# Altium footprint library mw.PcbLib: 252 footprints (part 5 of 16)
Each footprint in its own frame and in the unit in brackets; x right, y up, seen from the top. Pads: shape width x height; smd on the part's side, far side on the other; paste and mask are expansions set on the pad; w line width, h text height; cw(c..) or ccw(c..) is an arc to the next point about the centre after c.
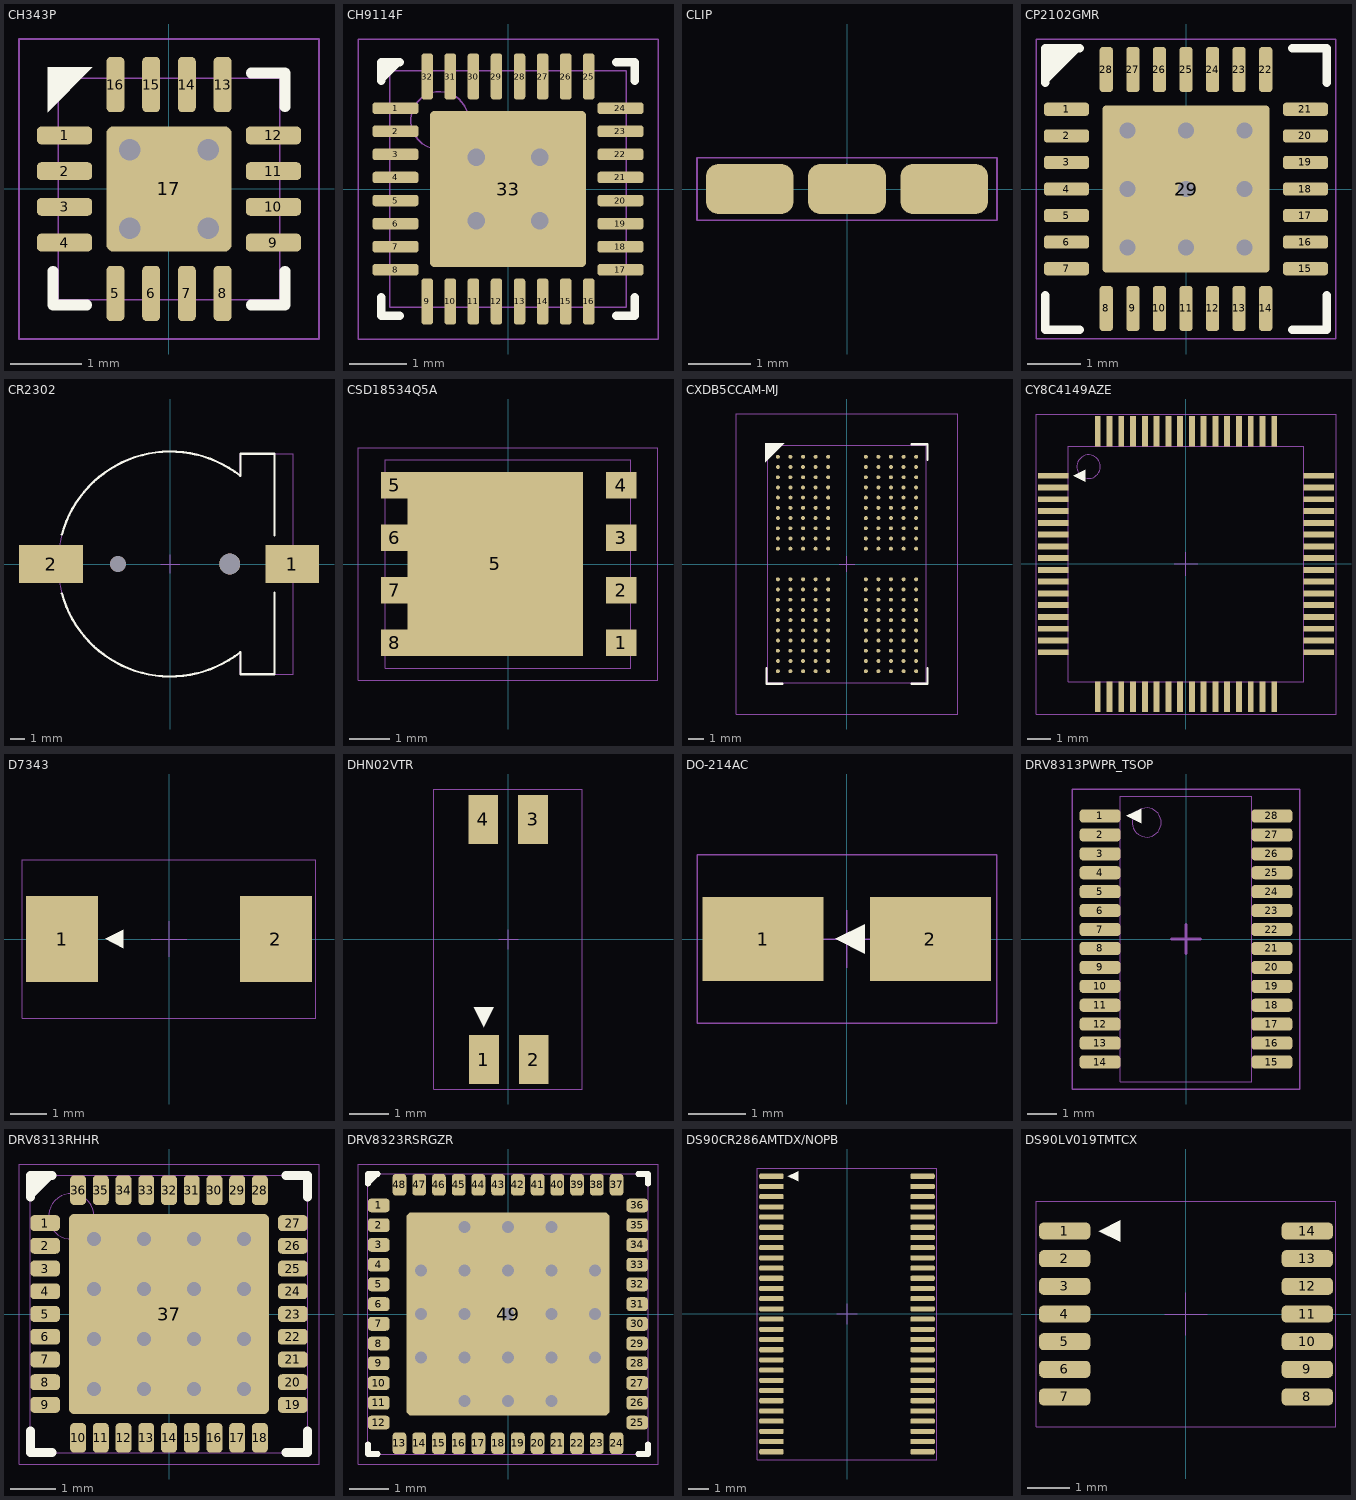
[diagram p4: the footprints below, top view; thin cyan lines are the x and y axes]

## CH343P [mm] "QFN, 16-Leads, Body 3.00x3.00mm, Pitch 0.50mm, Thermal Pad 1.75x1.75mm, IPC Medium Density"
height 0.6
pads (17):
  rrect50% 0.775x0.25 smd: 1(-1.462,0.75) 2(-1.462,0.25) 3(-1.462,-0.25) 4(-1.462,-0.75) 9(1.463,-0.75) 10(1.463,-0.25) 11(1.463,0.25) 12(1.463,0.75)
  rrect50% 0.25x0.775 smd: 5(-0.75,-1.463) 6(-0.25,-1.463) 7(0.25,-1.463) 8(0.75,-1.463) 13(0.75,1.462) 14(0.25,1.462) 15(-0.25,1.462) 16(-0.75,1.462)
  rrect10% 1.75x1.75 smd paste-0.322: 17(0,0)
via 0.55,-0.55 diameter 0.45 hole 0.3
via -0.55,-0.55 diameter 0.45 hole 0.3
via 0.55,0.55 diameter 0.45 hole 0.3
via -0.55,0.55 diameter 0.45 hole 0.3
Top Overlay:
  region: -1.701,1.077 -1.076,1.702 -1.701,1.702
  lines w0.152: -1.626,-1.151 -1.626,-1.626 -1.151,-1.626 ; 1.151,-1.626 1.626,-1.626 1.626,-1.151 ; 1.151,1.626 1.626,1.626 1.626,1.151
Top 3D Body (Mech13):
  lines w0.025: -1.55,-1.55 -1.55,1.55 1.55,1.55 1.55,-1.55 -1.55,-1.55
Top Courtyard:
  lines w0.025: -0.5,0 0.5,0 ; 0,-0.5 0,0.5 ; -2.1,-2.1 2.1,-2.1 2.1,2.1 -2.1,2.1 -2.1,-2.1
3D body "CH343P.step": height 0.6, standoff 0, extent -1.551,-1.551 1.551,1.551

## CH9114F [mm] "QFN, 32-Leads, Body 4.00x4.00mm, Pitch 0.40mm, Thermal Pad 2.70x2.70mm, IPC Medium Density"
height 0.8
pads (33):
  rrect50% 0.8x0.2 smd: 1(-1.95,1.4) 2(-1.95,1) 3(-1.95,0.6) 4(-1.95,0.2) 5(-1.95,-0.2) 6(-1.95,-0.6) 7(-1.95,-1) 8(-1.95,-1.4) 17(1.95,-1.4) 18(1.95,-1) 19(1.95,-0.6) 20(1.95,-0.2) 21(1.95,0.2) 22(1.95,0.6) 23(1.95,1) 24(1.95,1.4)
  rrect50% 0.2x0.8 smd: 9(-1.4,-1.95) 10(-1,-1.95) 11(-0.6,-1.95) 12(-0.2,-1.95) 13(0.2,-1.95) 14(0.6,-1.95) 15(1,-1.95) 16(1.4,-1.95) 25(1.4,1.95) 26(1,1.95) 27(0.6,1.95) 28(0.2,1.95) 29(-0.2,1.95) 30(-0.6,1.95) 31(-1,1.95) 32(-1.4,1.95)
  rrect5% 2.7x2.7 smd: 33(0,0)
via 0.55,-0.55 diameter 0.45 hole 0.3
via -0.55,-0.55 diameter 0.45 hole 0.3
via 0.55,0.55 diameter 0.45 hole 0.3
via -0.55,0.55 diameter 0.45 hole 0.3
Top Overlay:
  region: -2.2,2.2 -1.817,2.2 -2.2,1.817
  lines w0.15: -2.2,-1.875 -2.2,-2.2 -1.875,-2.2 ; -2.2,1.875 -2.2,2.2 -1.875,2.2 ; 1.875,-2.2 2.2,-2.2 2.2,-1.875 ; 1.875,2.2 2.2,2.2 2.2,1.875
Top 3D Body (Mech13):
  circle w0.025: c-1.187,1.187 r0.5
  lines w0.025: -2.05,-2.05 2.05,-2.05 2.05,2.05 -2.05,2.05 -2.05,-2.05
Top Courtyard:
  lines w0.025: -0.5,0 0.5,0 ; 0,-0.5 0,0.5 ; -2.6,-2.6 2.6,-2.6 2.6,2.6 -2.6,2.6 -2.6,-2.6
3D body "CH9114F.step": height 0.8, standoff 0, extent -2.075,-2.075 2.075,2.075

## CLIP [mm]
pads (3):
  rrect50% 1.4x0.8 smd: ""(-1.555,0) ""(1.555,0)
  rrect50% 1.25x0.8 smd: ""(0,0)
Top Courtyard:
  lines w0.025: -0.254,0 0.254,0 ; -0.001,-0.375 -0.001,0.4 ; -2.4,-0.5 2.4,-0.5 2.4,0.5 -2.4,0.5 -2.4,-0.5

## CP2102GMR [mm] "QFN, 28-Leads, Body 5.00x5.00mm, Pitch 0.50mm, Thermal Pad 3.20x3.20mm, IPC High Density"
height 1
pads (29):
  rrect50% 0.85x0.25 smd: 1(-2.25,1.5) 2(-2.25,1) 3(-2.25,0.5) 4(-2.25,0) 5(-2.25,-0.5) 6(-2.25,-1) 7(-2.25,-1.5) 15(2.25,-1.5) 16(2.25,-1) 17(2.25,-0.5) 18(2.25,0) 19(2.25,0.5) 20(2.25,1) 21(2.25,1.5)
  rrect50% 0.25x0.85 smd: 8(-1.5,-2.25) 9(-1,-2.25) 10(-0.5,-2.25) 11(0,-2.25) 12(0.5,-2.25) 13(1,-2.25) 14(1.5,-2.25) 22(1.5,2.25) 23(1,2.25) 24(0.5,2.25) 25(0,2.25) 26(-0.5,2.25) 27(-1,2.25) 28(-1.5,2.25)
  rrect5% 3.15x3.15 smd: 29(0,0)
via 1.1,-1.1 diameter 0.4 hole 0.3
via 0,-1.1 diameter 0.4 hole 0.3
via -1.1,-1.1 diameter 0.4 hole 0.3
via 1.1,0 diameter 0.4 hole 0.3
via 0,0 diameter 0.4 hole 0.3
via -1.1,0 diameter 0.4 hole 0.3
via 1.1,1.1 diameter 0.4 hole 0.3
via 0,1.1 diameter 0.4 hole 0.3
via -1.1,1.1 diameter 0.4 hole 0.3
Top Overlay:
  region: -1.954,2.65 -2.65,1.954 -2.65,2.65
  lines w0.152: -2.65,-2.001 -2.65,-2.65 -2.001,-2.65 ; -2.65,2.001 -2.65,2.65 -2.001,2.65 ; 2.001,-2.65 2.65,-2.65 2.65,-2.001 ; 2.001,2.65 2.65,2.65 2.65,2.001
Top Courtyard:
  lines w0.025: -0.5,0 0.5,0 ; 0,-0.5 0,0.5 ; -2.825,-2.825 2.825,-2.825 2.825,2.825 -2.825,2.825 -2.825,-2.825
3D body "cp2102gmr.STEP": height 0.82, standoff 0, extent -2.51,-2.52 2.51,2.5

## CR2302 [mm]
pads (4):
  rect 3.6x2.55 smd: 1(8.17,0)
  rect 4.3x2.55 smd: 2(-8.01,0)
  round 1.05 hole 1.05 unplated: ""(-3.52,0)
  round 1.4 hole 1.4 unplated: ""(3.98,0)
Top Overlay:
  lines w0.152: -7.284,-1.987 ccw(c0,0) 4.686,-5.92 ; -7.284,1.987 cw(c0,0) 4.686,5.92 ; 4.699,-5.909 4.699,-7.4 6.985,-7.4 6.985,-1.905 ; 4.699,5.909 4.699,7.4 6.985,7.4 6.985,1.905
Top Courtyard:
  lines w0.025: -0.635,0 0.635,0 ; 0,-0.635 0,0.635 ; 4.686,-5.92 cw(c0,0) 4.699,5.909 4.699,7.4 8.255,7.4 8.255,-7.4 4.699,-7.4 4.699,-5.909

## CSD18534Q5A [mm]
pads (9):
  rect 0.75x0.65 smd paste-2539.97: 1(2.777,-1.93) 2(2.777,-0.643) 3(2.777,0.643) 4(2.777,1.93)
  rect 0.655x0.65 smd paste-2539.97: 5(-2.777,1.93) 6(-2.777,0.643) 7(-2.777,-0.643) 8(-2.777,-1.93)
  rect 4.295x4.51 smd paste-2539.97: 5(-0.314,0)
Top Paste:
  rectangle: -1.895,0.31 -0.31,1.88
  rectangle: -1.895,-1.88 -0.31,-0.31
  region: 1.425,1.88 0.19,1.88 0.19,0.31 1.425,0.31
  region: 1.425,-0.31 0.19,-0.31 0.19,-1.88 1.425,-1.88
  region: -3.027,1.68 -3.027,2.18 -2.527,2.18 -2.527,1.68
  region: -3.027,0.393 -3.027,0.893 -2.527,0.893 -2.527,0.393
  region: -3.027,-0.893 -3.027,-0.393 -2.527,-0.393 -2.527,-0.893
  region: 2.527,1.68 2.527,2.18 3.027,2.18 3.027,1.68
  region: 2.527,0.393 2.527,0.893 3.027,0.893 3.027,0.393
  region: 2.527,-0.893 2.527,-0.393 3.027,-0.393 3.027,-0.893
  region: 2.527,-2.18 2.527,-1.68 3.027,-1.68 3.027,-2.18
  region: -3.027,-2.18 -3.027,-1.68 -2.527,-1.68 -2.527,-2.18
Top 3D Body (Mech13):
  lines w0.025: -3,-2.55 3,-2.55 3,2.55 -3,2.55 -3,-2.55
Top Courtyard:
  lines w0.025: -0.508,0 0.508,0 ; 0,-0.508 0,0.508 ; -3.672,-2.852 3.672,-2.852 3.672,2.852 -3.672,2.852 -3.672,-2.852
3D body "CSD18534Q5A.step": height 1.05, standoff 0, extent -3,-2.55 3,2.55

## CXDB5CCAM-MJ [mm] "BGA, 200-Leads, Body 10.00x15.00mmx1.00mm, Pitch 0.65mm"
height 1
pads (200):
  round 0.25 smd: A1(-4.4,6.825) A2(-3.6,6.825) A3(-2.8,6.825) A4(-2,6.825) A5(-1.2,6.825) A8(1.2,6.825) A9(2,6.825) A10(2.8,6.825) A11(3.6,6.825) A12(4.4,6.825) AA1(-4.4,-6.175) AA2(-3.6,-6.175) AA3(-2.8,-6.175) AA4(-2,-6.175) AA5(-1.2,-6.175) AA8(1.2,-6.175) AA9(2,-6.175) AA10(2.8,-6.175) AA11(3.6,-6.175) AA12(4.4,-6.175) AB1(-4.4,-6.825) AB2(-3.6,-6.825) AB3(-2.8,-6.825) AB4(-2,-6.825) AB5(-1.2,-6.825) AB8(1.2,-6.825) AB9(2,-6.825) AB10(2.8,-6.825) AB11(3.6,-6.825) AB12(4.4,-6.825) B1(-4.4,6.175) B2(-3.6,6.175) B3(-2.8,6.175) B4(-2,6.175) B5(-1.2,6.175) B8(1.2,6.175) B9(2,6.175) B10(2.8,6.175) B11(3.6,6.175) B12(4.4,6.175) C1(-4.4,5.525) C2(-3.6,5.525) C3(-2.8,5.525) C4(-2,5.525) C5(-1.2,5.525) C8(1.2,5.525) C9(2,5.525) C10(2.8,5.525) C11(3.6,5.525) C12(4.4,5.525) D1(-4.4,4.875) D2(-3.6,4.875) D3(-2.8,4.875) D4(-2,4.875) D5(-1.2,4.875) D8(1.2,4.875) D9(2,4.875) D10(2.8,4.875) D11(3.6,4.875) D12(4.4,4.875) E1(-4.4,4.225) E2(-3.6,4.225) E3(-2.8,4.225) E4(-2,4.225) E5(-1.2,4.225) E8(1.2,4.225) E9(2,4.225) E10(2.8,4.225) E11(3.6,4.225) E12(4.4,4.225) F1(-4.4,3.575) F2(-3.6,3.575) F3(-2.8,3.575) F4(-2,3.575) F5(-1.2,3.575) F8(1.2,3.575) F9(2,3.575) F10(2.8,3.575) F11(3.6,3.575) F12(4.4,3.575) G1(-4.4,2.925) G2(-3.6,2.925) G3(-2.8,2.925) G4(-2,2.925) G5(-1.2,2.925) G8(1.2,2.925) G9(2,2.925) G10(2.8,2.925) G11(3.6,2.925) G12(4.4,2.925) H1(-4.4,2.275) H2(-3.6,2.275) H3(-2.8,2.275) H4(-2,2.275) H5(-1.2,2.275) H8(1.2,2.275) H9(2,2.275) H10(2.8,2.275) H11(3.6,2.275) H12(4.4,2.275) J1(-4.4,1.625) J2(-3.6,1.625) J3(-2.8,1.625) J4(-2,1.625) J5(-1.2,1.625) J8(1.2,1.625) J9(2,1.625) J10(2.8,1.625) J11(3.6,1.625) J12(4.4,1.625) K1(-4.4,0.975) K2(-3.6,0.975) K3(-2.8,0.975) K4(-2,0.975) K5(-1.2,0.975) K8(1.2,0.975) K9(2,0.975) K10(2.8,0.975) K11(3.6,0.975) K12(4.4,0.975) N1(-4.4,-0.975) N2(-3.6,-0.975) N3(-2.8,-0.975) N4(-2,-0.975) N5(-1.2,-0.975) N8(1.2,-0.975) N9(2,-0.975) N10(2.8,-0.975) N11(3.6,-0.975) N12(4.4,-0.975) P1(-4.4,-1.625) P2(-3.6,-1.625) P3(-2.8,-1.625) P4(-2,-1.625) P5(-1.2,-1.625) P8(1.2,-1.625) P9(2,-1.625) P10(2.8,-1.625) P11(3.6,-1.625) P12(4.4,-1.625) R1(-4.4,-2.275) R2(-3.6,-2.275) R3(-2.8,-2.275) R4(-2,-2.275) R5(-1.2,-2.275) R8(1.2,-2.275) R9(2,-2.275) R10(2.8,-2.275) R11(3.6,-2.275) R12(4.4,-2.275) T1(-4.4,-2.925) T2(-3.6,-2.925) T3(-2.8,-2.925) T4(-2,-2.925) T5(-1.2,-2.925) T8(1.2,-2.925) T9(2,-2.925) T10(2.8,-2.925) T11(3.6,-2.925) T12(4.4,-2.925) U1(-4.4,-3.575) U2(-3.6,-3.575) U3(-2.8,-3.575) U4(-2,-3.575) U5(-1.2,-3.575) U8(1.2,-3.575) U9(2,-3.575) U10(2.8,-3.575) U11(3.6,-3.575) U12(4.4,-3.575) V1(-4.4,-4.225) V2(-3.6,-4.225) V3(-2.8,-4.225) V4(-2,-4.225) V5(-1.2,-4.225) V8(1.2,-4.225) V9(2,-4.225) V10(2.8,-4.225) V11(3.6,-4.225) V12(4.4,-4.225) W1(-4.4,-4.875) W2(-3.6,-4.875) W3(-2.8,-4.875) W4(-2,-4.875) W5(-1.2,-4.875) W8(1.2,-4.875) W9(2,-4.875) W10(2.8,-4.875) W11(3.6,-4.875) W12(4.4,-4.875) Y1(-4.4,-5.525) Y2(-3.6,-5.525) Y3(-2.8,-5.525) Y4(-2,-5.525) Y5(-1.2,-5.525) Y8(1.2,-5.525) Y9(2,-5.525) Y10(2.8,-5.525) Y11(3.6,-5.525) Y12(4.4,-5.525)
Top Overlay:
  region: -3.982,7.702 -5.202,6.482 -5.202,7.702
  lines w0.152: -5.126,-6.626 -5.126,-7.626 -4.126,-7.626 ; 4.126,-7.626 5.126,-7.626 5.126,-6.626 ; 4.126,7.626 5.126,7.626 5.126,6.626
Top 3D Body (Mech13):
  lines w0.025: -5.05,-7.55 5.05,-7.55 5.05,7.55 -5.05,7.55 -5.05,-7.55
Top Courtyard:
  lines w0.025: -0.5,0 0.5,0 ; 0,-0.5 0,0.5 ; -7.05,-9.55 7.05,-9.55 7.05,9.55 -7.05,9.55 -7.05,-9.55
3D body "CXDB5CCAM-MJ.step": height 0.8, standoff 0, extent -5,-7.25 5,7.25

## CY8C4149AZE [mm] "TSQFP, 64-Leads, Body 10.00x10.00mm, Pitch 0.50mm, IPC High Density"
height 1.5
pads (64):
  rect 1.3x0.25 smd: 1(-5.65,3.75) 2(-5.65,3.25) 3(-5.65,2.75) 4(-5.65,2.25) 5(-5.65,1.75) 6(-5.65,1.25) 7(-5.65,0.75) 8(-5.65,0.25) 9(-5.65,-0.25) 10(-5.65,-0.75) 11(-5.65,-1.25) 12(-5.65,-1.75) 13(-5.65,-2.25) 14(-5.65,-2.75) 15(-5.65,-3.25) 16(-5.65,-3.75) 33(5.65,-3.75) 34(5.65,-3.25) 35(5.65,-2.75) 36(5.65,-2.25) 37(5.65,-1.75) 38(5.65,-1.25) 39(5.65,-0.75) 40(5.65,-0.25) 41(5.65,0.25) 42(5.65,0.75) 43(5.65,1.25) 44(5.65,1.75) 45(5.65,2.25) 46(5.65,2.75) 47(5.65,3.25) 48(5.65,3.75)
  rect 0.25x1.3 smd: 17(-3.75,-5.65) 18(-3.25,-5.65) 19(-2.75,-5.65) 20(-2.25,-5.65) 21(-1.75,-5.65) 22(-1.25,-5.65) 23(-0.75,-5.65) 24(-0.25,-5.65) 25(0.25,-5.65) 26(0.75,-5.65) 27(1.25,-5.65) 28(1.75,-5.65) 29(2.25,-5.65) 30(2.75,-5.65) 31(3.25,-5.65) 32(3.75,-5.65) 49(3.75,5.65) 50(3.25,5.65) 51(2.75,5.65) 52(2.25,5.65) 53(1.75,5.65) 54(1.25,5.65) 55(0.75,5.65) 56(0.25,5.65) 57(-0.25,5.65) 58(-0.75,5.65) 59(-1.25,5.65) 60(-1.75,5.65) 61(-2.25,5.65) 62(-2.75,5.65) 63(-3.25,5.65) 64(-3.75,5.65)
Top Overlay:
  region: -4.292,3.496 -4.292,4.004 -4.8,3.75
Top 3D Body (Mech13):
  circle w0.025: c-4.137,4.137 r0.5
  lines w0.025: -5,-5 5,-5 5,5 -5,5 -5,-5
Top Courtyard:
  lines w0.025: -0.5,0 0.5,0 ; 0,-0.5 0,0.5 ; -6.375,-6.375 6.375,-6.375 6.375,6.375 -6.375,6.375 -6.375,-6.375
3D body "CY8C4149AZE.step": height 1.5, standoff 0, extent -6,-6 6,6

## D7343 [mm] "D7343"
pads (2):
  rect 2x2.4 smd: 1(-2.975,0) 2(2.975,0)
Top Overlay:
  region: -1.267,-0.254 -1.267,0.254 -1.775,0
Top Courtyard:
  lines w0.025: -0.5,0 0.5,0 ; 0,-0.5 0,0.5 ; -4.089,-2.2 -4.089,2.2 4.089,2.2 4.089,-2.2 -4.089,-2.2
3D body "7343-31-CASE-D-2917.STEP": height 2.92, standoff 0, extent -3.63,-2.166 3.681,2.134

## DHN02VTR [mm] "2 switch"
pads (4):
  rect 0.76x1.25 smd: 1(-0.626,-3.059) 2(0.644,-3.059) 3(0.626,3.059) 4(-0.644,3.059)
Top Overlay:
  region: -0.372,-1.726 -0.88,-1.726 -0.626,-2.234
Top Courtyard:
  lines w0.025: -0.254,0 0.254,0 ; 0,-0.254 0,0.254 ; -1.905,-3.81 1.88,-3.81 1.88,3.835 -1.905,3.835 -1.905,-3.81
3D body "dhn-02-v-tr.STEP": height 1.44, standoff -0.02, extent -1.885,-3.124 1.885,3.138

## DO-214AC [mm] "DO-214AC"
pads (2):
  rect 2.1x1.45 smd: 1(-1.45,0) 2(1.45,0)
Top Overlay:
  region: 0.308,-0.254 0.308,0.254 -0.2,0
Top Courtyard:
  lines w0.025: -0.5,0 0.5,0 ; 0,-0.5 0,0.5 ; -2.597,-1.46 2.603,-1.46 2.603,1.46 -2.597,1.46 -2.597,-1.46
3D body "do-214ac.STEP": height 2.06, standoff 0.01, extent -2.351,-1.324 2.351,1.346

## DRV8313PWPR_TSOP [mm] "TSOP, 28-Leads, Body 9.70x4.40mm, Pitch 0.65mm, IPC Medium Density"
height 1.2
pads (28):
  rrect50% 1.4x0.45 smd: 1(-2.95,4.225) 2(-2.95,3.575) 3(-2.95,2.925) 4(-2.95,2.275) 5(-2.95,1.625) 6(-2.95,0.975) 7(-2.95,0.325) 8(-2.95,-0.325) 9(-2.95,-0.975) 10(-2.95,-1.625) 11(-2.95,-2.275) 12(-2.95,-2.925) 13(-2.95,-3.575) 14(-2.95,-4.225) 15(2.95,-4.225) 16(2.95,-3.575) 17(2.95,-2.925) 18(2.95,-2.275) 19(2.95,-1.625) 20(2.95,-0.975) 21(2.95,-0.325) 22(2.95,0.325) 23(2.95,0.975) 24(2.95,1.625) 25(2.95,2.275) 26(2.95,2.925) 27(2.95,3.575) 28(2.95,4.225)
Top Overlay:
  region: -1.542,3.971 -1.542,4.479 -2.05,4.225
Top 3D Body (Mech13):
  circle w0.025: c-1.35,4 r0.5
  lines w0.025: -2.25,-4.9 2.25,-4.9 2.25,4.9 -2.25,4.9 -2.25,-4.9
Top Courtyard:
  lines w0.05: -3.9,-5.15 3.9,-5.15 3.9,5.15 -3.9,5.15 -3.9,-5.15
  lines w0.1: -0.5,0 0.5,0 ; 0,-0.5 0,0.5
3D body "DRV8313PWPR.step": height 1.2, standoff 0, extent -3.2,-4.9 3.2,4.9

## DRV8313RHHR [mm] "PQFN, 36-Leads, Body 6.00x6.00mm, Pitch 0.50mm, Thermal Pad 4.40x4.40mm, IPC Medium Density"
height 1
pads (37):
  rrect50% 0.65x0.35 smd: 1(-2.725,2) 2(-2.725,1.5) 3(-2.725,1) 4(-2.725,0.5) 5(-2.725,0) 6(-2.725,-0.5) 7(-2.725,-1) 8(-2.725,-1.5) 9(-2.725,-2) 19(2.725,-2) 20(2.725,-1.5) 21(2.725,-1) 22(2.725,-0.5) 23(2.725,0) 24(2.725,0.5) 25(2.725,1) 26(2.725,1.5) 27(2.725,2)
  rrect50% 0.35x0.65 smd: 10(-2,-2.725) 11(-1.5,-2.725) 12(-1,-2.725) 13(-0.5,-2.725) 14(0,-2.725) 15(0.5,-2.725) 16(1,-2.725) 17(1.5,-2.725) 18(2,-2.725) 28(2,2.725) 29(1.5,2.725) 30(1,2.725) 31(0.5,2.725) 32(0,2.725) 33(-0.5,2.725) 34(-1,2.725) 35(-1.5,2.725) 36(-2,2.725)
  rrect5% 4.4x4.4 smd: 37(0,0)
via -1.65,1.65 diameter 0.45 hole 0.3
via -0.55,1.65 diameter 0.45 hole 0.3
via 0.55,1.65 diameter 0.45 hole 0.3
via 1.65,1.65 diameter 0.45 hole 0.3
via -1.65,0.55 diameter 0.45 hole 0.3
via -0.55,0.55 diameter 0.45 hole 0.3
via 0.55,0.55 diameter 0.45 hole 0.3
via 1.65,0.55 diameter 0.45 hole 0.3
via -1.65,-0.55 diameter 0.45 hole 0.3
via -0.55,-0.55 diameter 0.45 hole 0.3
via 0.55,-0.55 diameter 0.45 hole 0.3
via 1.65,-0.55 diameter 0.45 hole 0.3
via -1.65,-1.65 diameter 0.45 hole 0.3
via -0.55,-1.65 diameter 0.45 hole 0.3
via 0.55,-1.65 diameter 0.45 hole 0.3
via 1.65,-1.65 diameter 0.45 hole 0.3
Top Overlay:
  region: -3.05,3.05 -2.487,3.05 -3.05,2.487
  lines w0.2: -3.05,-2.575 -3.05,-3.05 -2.575,-3.05 ; -3.05,2.575 -3.05,3.05 -2.575,3.05 ; 2.575,-3.05 3.05,-3.05 3.05,-2.575 ; 2.575,3.05 3.05,3.05 3.05,2.575
Top 3D Body (Mech13):
  circle w0.025: c-2.15,2.15 r0.5
  lines w0.025: -3.05,-3.05 -3.05,3.05 3.05,3.05 3.05,-3.05 -3.05,-3.05
Top Courtyard:
  lines w0.025: -3.3,-3.3 -3.3,3.3 3.3,3.3 3.3,-3.3 -3.3,-3.3
  lines w0.1: -0.5,0 0.5,0 ; 0,-0.5 0,0.5
3D body "DRV8313RHHR.step": height 1, standoff 0, extent -3.05,-3.05 3.05,3.05

## DRV8323RSRGZR [mm] "PQFN, 48-Leads, Body 7.00x7.00mm, Pitch 0.50mm, Thermal Pad 5.15x5.15mm, IPC Medium Density"
height 1
pads (49):
  rrect50% 0.55x0.35 smd: 1(-3.275,2.75) 2(-3.275,2.25) 3(-3.275,1.75) 4(-3.275,1.25) 5(-3.275,0.75) 6(-3.275,0.25) 7(-3.275,-0.25) 8(-3.275,-0.75) 9(-3.275,-1.25) 10(-3.275,-1.75) 11(-3.275,-2.25) 12(-3.275,-2.75) 25(3.275,-2.75) 26(3.275,-2.25) 27(3.275,-1.75) 28(3.275,-1.25) 29(3.275,-0.75) 30(3.275,-0.25) 31(3.275,0.25) 32(3.275,0.75) 33(3.275,1.25) 34(3.275,1.75) 35(3.275,2.25) 36(3.275,2.75)
  rrect50% 0.35x0.55 smd: 13(-2.75,-3.275) 14(-2.25,-3.275) 15(-1.75,-3.275) 16(-1.25,-3.275) 17(-0.75,-3.275) 18(-0.25,-3.275) 19(0.25,-3.275) 20(0.75,-3.275) 21(1.25,-3.275) 22(1.75,-3.275) 23(2.25,-3.275) 24(2.75,-3.275) 37(2.75,3.275) 38(2.25,3.275) 39(1.75,3.275) 40(1.25,3.275) 41(0.75,3.275) 42(0.25,3.275) 43(-0.25,3.275) 44(-0.75,3.275) 45(-1.25,3.275) 46(-1.75,3.275) 47(-2.25,3.275) 48(-2.75,3.275)
  rrect5% 5.15x5.15 smd paste-2539.97: 49(0,0)
via 1.1,-2.2 diameter 0.45 hole 0.3
via 0,-2.2 diameter 0.45 hole 0.3
via -1.1,-2.2 diameter 0.45 hole 0.3
via 2.2,-1.1 diameter 0.45 hole 0.3
via 1.1,-1.1 diameter 0.45 hole 0.3
via 0,-1.1 diameter 0.45 hole 0.3
via -1.1,-1.1 diameter 0.45 hole 0.3
via -2.2,-1.1 diameter 0.45 hole 0.3
via 2.2,0 diameter 0.45 hole 0.3
via 1.1,0 diameter 0.45 hole 0.3
via -1.1,0 diameter 0.45 hole 0.3
via -2.2,0 diameter 0.45 hole 0.3
via 2.2,1.1 diameter 0.45 hole 0.3
via 1.1,1.1 diameter 0.45 hole 0.3
via 0,1.1 diameter 0.45 hole 0.3
via -1.1,1.1 diameter 0.45 hole 0.3
via -2.2,1.1 diameter 0.45 hole 0.3
via 1.1,2.2 diameter 0.45 hole 0.3
via 0,2.2 diameter 0.45 hole 0.3
via -1.1,2.2 diameter 0.45 hole 0.3
via 0,0 diameter 0.45 hole 0.3
Top Overlay:
  region: -3.55,3.55 -3.229,3.55 -3.55,3.229
  lines w0.15: -3.55,-3.3 -3.55,-3.55 -3.3,-3.55 ; -3.55,3.3 -3.55,3.55 -3.3,3.55 ; 3.3,-3.55 3.55,-3.55 3.55,-3.3 ; 3.3,3.55 3.55,3.55 3.55,3.3
Top Paste:
  rectangle: -2.41,1.446 -1.41,2.446
  rectangle: -2.41,0.176 -1.41,1.176
  rectangle: -1.14,1.446 -0.14,2.446
  rectangle: -1.14,0.176 -0.14,1.176
  rectangle: 1.4,1.446 2.4,2.446
  rectangle: 0.13,1.446 1.13,2.446
  rectangle: 0.13,0.176 1.13,1.176
  rectangle: 1.4,0.176 2.4,1.176
  rectangle: -2.41,-1.094 -1.41,-0.094
  rectangle: -1.14,-1.094 -0.14,-0.094
  rectangle: 0.13,-1.094 1.13,-0.094
  rectangle: 1.4,-1.094 2.4,-0.094
  rectangle: -2.41,-2.364 -1.41,-1.364
  rectangle: -1.14,-2.364 -0.14,-1.364
  rectangle: 0.13,-2.364 1.13,-1.364
  rectangle: 1.4,-2.364 2.4,-1.364
Top 3D Body (Mech13):
  lines w0.025: -3.55,-3.55 3.55,-3.55 3.55,3.55 -3.55,3.55 -3.55,-3.55
Top Courtyard:
  lines w0.025: -0.5,0 0.5,0 ; 0,-0.5 0,0.5 ; -3.8,-3.8 3.8,-3.8 3.8,3.8 -3.8,3.8 -3.8,-3.8
3D body "DRV8323RSRGZR.step": height 1, standoff 0, extent -3.55,-3.55 3.55,3.55

## DS90CR286AMTDX/NOPB [mm]
height 1.2
pads (56):
  rrect50% 1.2x0.25 smd: 1(-3.7,6.75) 2(-3.7,6.25) 3(-3.7,5.75) 4(-3.7,5.25) 5(-3.7,4.75) 6(-3.7,4.25) 7(-3.7,3.75) 8(-3.7,3.25) 9(-3.7,2.75) 10(-3.7,2.25) 11(-3.7,1.75) 12(-3.7,1.25) 13(-3.7,0.75) 14(-3.7,0.25) 15(-3.7,-0.25) 16(-3.7,-0.75) 17(-3.7,-1.25) 18(-3.7,-1.75) 19(-3.7,-2.25) 20(-3.7,-2.75) 21(-3.7,-3.25) 22(-3.7,-3.75) 23(-3.7,-4.25) 24(-3.7,-4.75) 25(-3.7,-5.25) 26(-3.7,-5.75) 27(-3.7,-6.25) 28(-3.7,-6.75) 29(3.7,-6.75) 30(3.7,-6.25) 31(3.7,-5.75) 32(3.7,-5.25) 33(3.7,-4.75) 34(3.7,-4.25) 35(3.7,-3.75) 36(3.7,-3.25) 37(3.7,-2.75) 38(3.7,-2.25) 39(3.7,-1.75) 40(3.7,-1.25) 41(3.7,-0.75) 42(3.7,-0.25) 43(3.7,0.25) 44(3.7,0.75) 45(3.7,1.25) 46(3.7,1.75) 47(3.7,2.25) 48(3.7,2.75) 49(3.7,3.25) 50(3.7,3.75) 51(3.7,4.25) 52(3.7,4.75) 53(3.7,5.25) 54(3.7,5.75) 55(3.7,6.25) 56(3.7,6.75)
Top Overlay:
  region: -2.392,6.496 -2.392,7.004 -2.9,6.75
Top Courtyard:
  lines w0.025: -0.5,0 0.5,0 ; 0,-0.5 0,0.5 ; -4.4,-7.15 -4.4,7.15 4.4,7.15 4.4,-7.15 -4.4,-7.15
3D body "ds90cr286.STEP": height 1.1, standoff 0, extent -4.095,-7.044 4.066,6.956

## DS90LV019TMTCX [mm] "TSOP, 14-Leads, Body 5.00x4.40mm, Pitch 0.65mm, IPC High Density"
height 1.1
pads (14):
  rrect50% 1.2x0.4 smd: 1(-2.85,1.95) 2(-2.85,1.3) 3(-2.85,0.65) 4(-2.85,0) 5(-2.85,-0.65) 6(-2.85,-1.3) 7(-2.85,-1.95) 8(2.85,-1.95) 9(2.85,-1.3) 10(2.85,-0.65) 11(2.85,0) 12(2.85,0.65) 13(2.85,1.3) 14(2.85,1.95)
Top Overlay:
  region: -1.542,1.696 -1.542,2.204 -2.05,1.95
Top Courtyard:
  lines w0.025: -0.5,0 0.5,0 ; 0,-0.5 0,0.5 ; -3.525,-2.65 -3.525,2.65 3.525,2.65 3.525,-2.65 -3.525,-2.65
3D body "TSOP65P640X110-14L.step": height 1.1, standoff 0, extent -3.2,-2.55 3.2,2.55